# Altium footprint library UDEMY_Library.PcbLib: 35 footprints (part 1 of 3)
Each footprint in its own frame and in the unit in brackets; x right, y up, seen from the top. Pads: shape width x height; smd on the part's side, far side on the other; paste and mask are expansions set on the pad; w line width, h text height; cw(c..) or ccw(c..) is an arc to the next point about the centre after c.
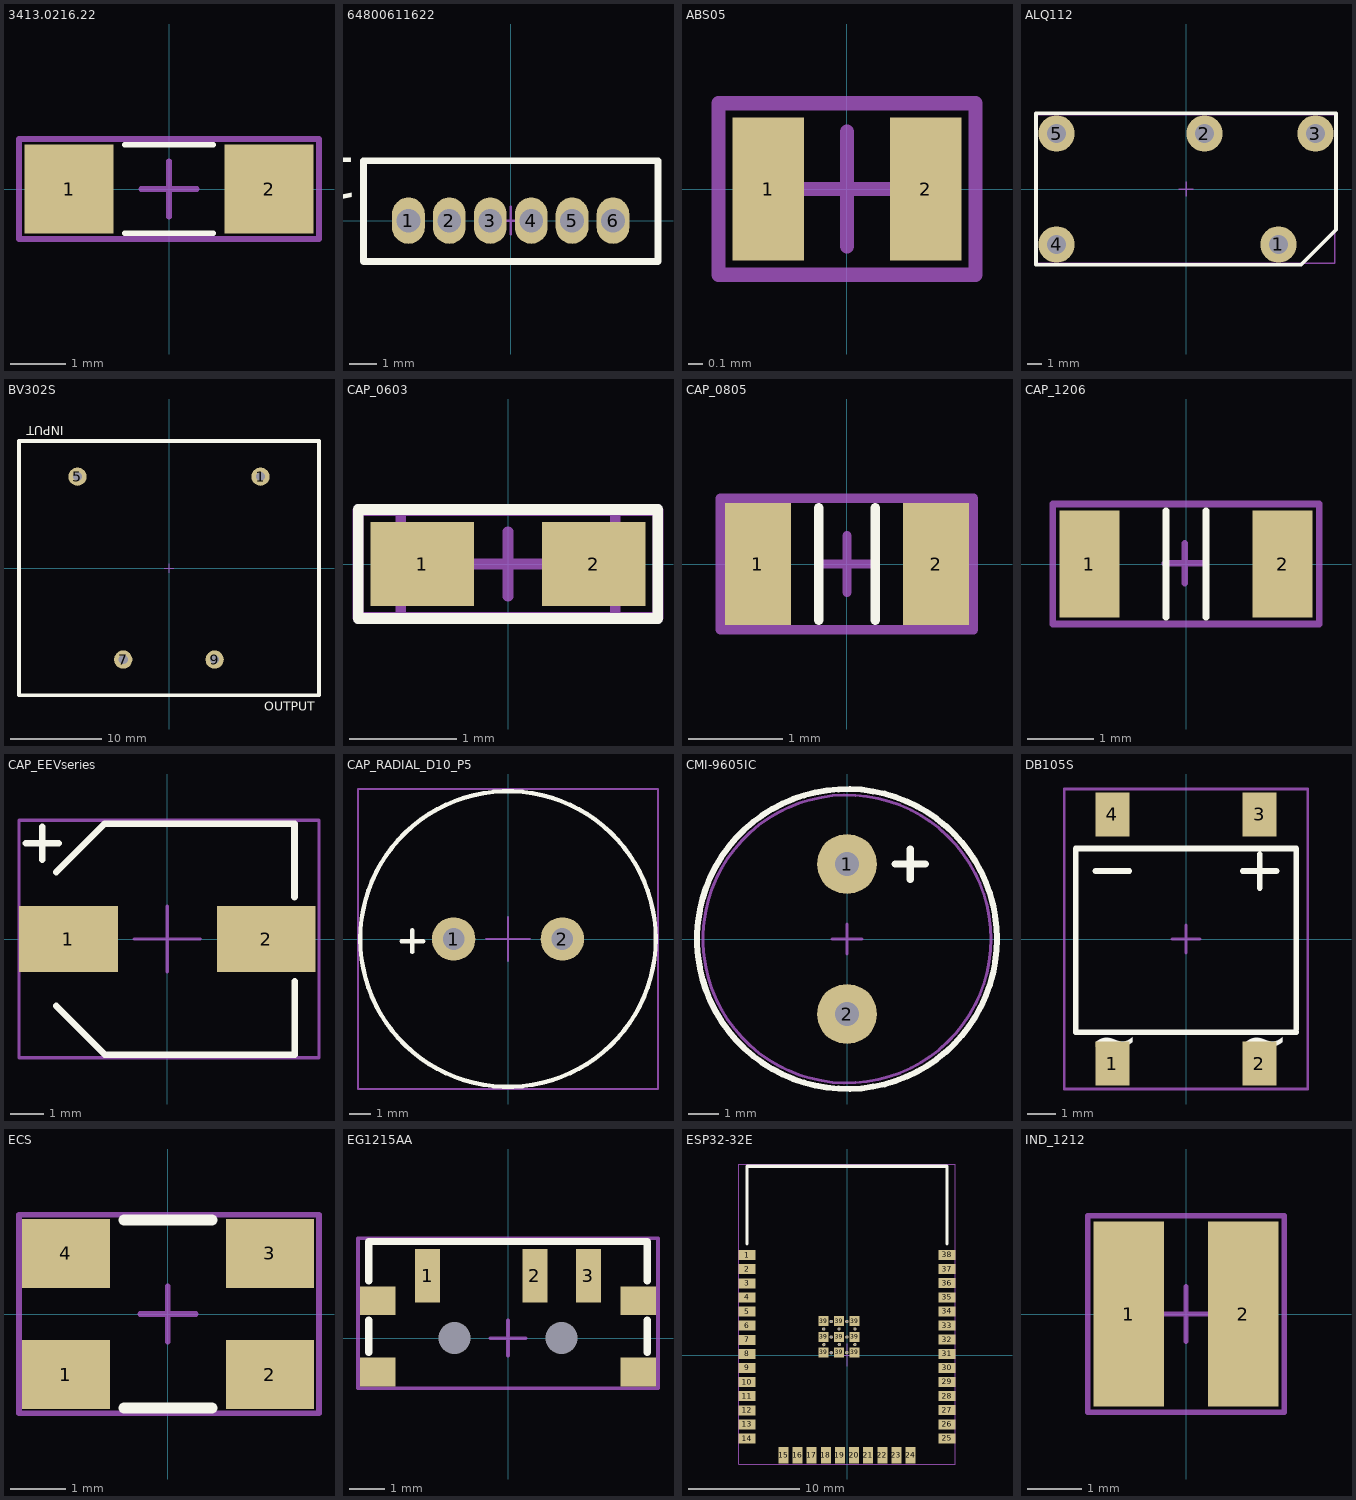
[diagram p0: the footprints below, top view; thin cyan lines are the x and y axes]

## 3413.0216.22 [mm]
pads (2):
  rect 1.6x1.6 smd mask+0.05: 1(-1.8,0) 2(1.8,0)
Top Overlay:
  lines w0.1: -0.8,-0.8 0.8,-0.8 ; -0.8,0.8 0.8,0.8
Top Component Center:
  lines w0.1: -0.5,0 0.5,0 ; 0,-0.5 0,0.5 ; -2.7,-0.9 -2.7,0.9 2.7,0.9 2.7,-0.9 -2.7,-0.9
Top Designator:
  lines w0.1: -2.7,-0.9 -2.7,0.9 2.7,0.9 2.7,-0.9 -2.7,-0.9
  text "'.Designator'" at -2.2,-0.8 h0.8
3D body "e_0100.3479_003.step": height 0.6, standoff -0.04, extent -1.612,-0.8 1.612,0.8

## 64800611622 [mm]
pads (6):
  oval 1.2x1.7 hole 0.87 mask+0.05: 1(-3.75,0) 2(-2.25,0) 3(-0.75,0) 4(0.75,0) 5(2.25,0) 6(3.75,0)
Top Overlay:
  lines w0.25: -5.4,-1.5 -5.4,2.2 5.4,2.2 5.4,-1.5 -5.4,-1.5
  text "1" at -5.6,2.3 h1.52
Top Component Center:
  lines w0.1: -0.5,0 0.5,0 ; 0,-0.5 0,0.5 ; -5.4,-1.5 -5.4,2.2 5.4,2.2 5.4,-1.5 -5.4,-1.5
Top Designator:
  lines w0.1: -5.4,-1.5 5.4,-1.5 5.4,2.2 -5.4,2.2 -5.4,-1.5
  text "'.Designator'" at -4.4,-1.1 h1.52
3D body "64800611622 (rev1).stp": height 4.51, standoff -2.69, extent -5.25,-1.4 5.25,2.1

## ABS05 [mm]
pads (2):
  rect 0.5x1 smd mask+0.05: 1(-0.55,0) 2(0.55,0)
Top Component Center:
  lines w0.1: -0.4,0 0.4,0 ; 0,-0.4 0,0.4 ; -0.9,-0.6 0.9,-0.6 0.9,0.6 -0.9,0.6 -0.9,-0.6
Top Designator:
  lines w0.1: -0.9,-0.6 0.9,-0.6 0.9,0.6 -0.9,0.6 -0.9,-0.6
  text "'.Designator'" at -1.1,-0.8 h0.7
3D body "ABS05-32.768KHZ-T--3DModel-STEP-400430.STEP": height 0.51, standoff 0.01, extent -0.8,-0.5 0.8,0.5

## ALQ112 [mm]
pads (5):
  round 2.5 hole 1.3 mask+0.05: 1(6.35,-3.81) 2(1.27,3.81) 3(8.89,3.81) 4(-8.89,-3.81) 5(-8.89,3.81)
Top Overlay:
  lines w0.25: -10.3,-5.2 -10.3,5.2 10.3,5.2 10.3,-2.8 7.9,-5.2 -10.3,-5.2
Top Component Center:
  lines w0.1: -0.5,0 0.5,0 ; 0,-0.5 0,0.5 ; -10.2,-5.1 10.2,-5.1 10.2,5.1 -10.2,5.1 -10.2,-5.1
Top Designator:
  lines w0.1: -10.2,-5.1 10.2,-5.1 10.2,5.1 -10.2,5.1 -10.2,-5.1
  text "'.Designator'" at -5.3,-1.2 h1.52
3D body: height 15.6, standoff 0.4, extent 7.997,-4.011 8.997,-3.011
3D body: height 15.6, standoff 0.4, extent -10,-5.01 10,4.99
3D body: height 0.4, standoff -4, extent 8.49,3.66 9.29,3.96
3D body: height 0.4, standoff -4, extent 5.95,-3.96 6.75,-3.66
3D body: height 0.4, standoff -4, extent 0.87,3.66 1.67,3.96
3D body: height 0.5, standoff -3.7, extent -9.288,3.411 -8.492,4.209
3D body: height 0.5, standoff -3.7, extent -9.287,-4.209 -8.49,-3.411

## BV302S [mm]
pads (4):
  round 2 hole 1 mask+0.05: 1(10.006,10.001) 5(-10.006,9.999) 7(-5.006,-10.001) 9(4.994,-10.001)
Top Overlay:
  lines w0.4: -16.4,-13.9 -16.4,13.9 16.4,13.9 16.4,-13.9 -16.4,-13.9
  text "INPUT" at -11.5,15.5 h1
  text "OUTPUT" at 10.4,-15.6 h1
Top Component Center:
  lines w0.1: -0.5,0 0.5,0 ; 0,-0.5 0,0.5 ; -16.4,-13.9 -16.4,13.9 16.4,13.9 16.4,-13.9 -16.4,-13.9
Top Designator:
  lines w0.1: -16.4,-13.9 16.4,-13.9 16.4,13.9 -16.4,13.9 -16.4,-13.9
  text "'.Designator'" at -7.6,-1.4 h1.52
3D body "Hahn BV EI 302 2902.step": height 20.81, standoff -5.49, extent -16.25,-13.75 16.25,13.75

## CAP_0603 [mil]
pads (2):
  rect 38x31 smd mask+1.97: 1(-31.5,0) 2(31.5,0)
Top Overlay:
  lines w3.94: -55,-20 -55,20 55,20 55,-20 -55,-20
Mechanical 1:
  lines w3.94: -39.37,-19.68 39.37,-19.68 39.37,19.68 -39.37,19.68 -39.37,-19.68
Top Component Center:
  lines w3.94: -11.81,0 11.81,0 ; 0,-11.81 0,11.81 ; -55,-20 -55,20 55,20 55,-20 -55,-20
Top Designator:
  lines w3.94: -55.12,-19.68 -55.12,19.68 55.12,19.68 55.12,-19.68 -55.12,-19.68
  text ".Designator" at -44.29,-20.67 h19.68
3D body "CAPC0603.STEP": height 32, standoff 0.5, extent -41.35,-20.13 41.35,20.37

## CAP_0805 [mm]
pads (2):
  rect 0.7x1.3 smd mask+0.05: 1(-0.95,0) 2(0.95,0)
Top Overlay:
  lines w0.1: -0.3,-0.6 -0.3,0.6 ; 0.3,-0.6 0.3,0.6
Top Component Center:
  lines w0.1: -0.3,0 0.3,0 ; 0,-0.3 0,0.3 ; -1.35,-0.7 -1.35,0.7 1.35,0.7 1.35,-0.7 -1.35,-0.7
Top Designator:
  lines w0.1: -1.35,-0.7 -1.35,0.7 1.35,0.7 1.35,-0.7 -1.35,-0.7
  text "'.Designator'" at -1.6,-0.7 h0.7
3D body "CAPC0805.STEP": height 0.91, standoff 0.01, extent -1.301,-0.678 1.301,0.678

## CAP_1206 [mm]
pads (2):
  rect 0.9x1.6 smd mask+0.05: 1(-1.45,0) 2(1.45,0)
Top Overlay:
  lines w0.1: -0.3,-0.8 -0.3,0.8 ; 0.3,-0.8 0.3,0.8
Top Component Center:
  lines w0.1: -0.318,0.009 0.282,0.009 ; -0.018,-0.291 -0.018,0.309 ; -2,-0.9 -2,0.9 2,0.9 2,-0.9 -2,-0.9
Top Designator:
  lines w0.1: -2,-0.9 -2,0.9 2,0.9 2,-0.9 -2,-0.9
  text "'.Designator'" at -1.4,-0.7 h0.7
3D body "CAPC1206.STEP": height 1.32, standoff 0.01, extent -1.975,-0.976 1.974,0.976

## CAP_EEVseries [mm]
pads (2):
  rect 3x2 smd mask+0.05: 1(-3,0) 2(3,0)
Top Overlay:
  lines w0.2: -4.3,2.9 -3.3,2.9 ; -3.8,2.4 -3.8,3.4 ; -3.376,-2.026 -1.896,-3.506 3.861,-3.506 3.861,-1.281 ; -3.375,2.025 -1.9,3.5 3.857,3.5 3.857,1.275
Top Component Center:
  lines w0.1: -1,0 1,0 ; 0,-1 0,1 ; -4.5,-3.6 4.6,-3.6 4.6,3.6 -4.5,3.6 -4.5,-3.6
Top Designator:
  lines w0.1: -4.5,-3.6 4.6,-3.6 4.6,3.6 -4.5,3.6 -4.5,-3.6
  text "'.Designator'" at -3.1,-1.4 h1.52
3D body "EEV686M035A9HAA.step": height 8.02, standoff 0.01, extent -3.8,-3.4 3.8,3.4

## CAP_RADIAL_D10_P5 [mm]
pads (2):
  round 2 hole 1 mask+0.05: 1(-2.5,0) 2(2.5,0)
Top Overlay:
  circle w0.2: c0,0 r6.8
  lines w0.2: -4.9,-0.1 -3.9,-0.1 ; -4.4,-0.6 -4.4,0.4
Top Component Center:
  lines w0.1: -1,0 1,0 ; 0,-1 0,1 ; -6.9,-6.9 6.9,-6.9 6.9,6.9 -6.9,6.9 -6.9,-6.9
Top Designator:
  lines w0.1: -6.9,-6.9 -6.9,6.9 6.9,6.9 6.9,-6.9 -6.9,-6.9
  text "'.Designator'" at -3.7,-1.7 h1.52
3D body "ESH477M050AL3AA.step": height 22.02, standoff -19.99, extent -6.75,-6.75 6.75,6.771

## CMI-9605IC [mm]
pads (2):
  round 2 hole 0.8 mask+0.05: 1(0,2.5) 2(0,-2.5)
Top Overlay:
  circle w0.2: c0,0 r5
  lines w0.25: 1.6,2.5 2.6,2.5 ; 2.1,2 2.1,3
Top Component Center:
  circle w0.1: c0,0 r4.8
  lines w0.1: -0.5,0 0.5,0 ; 0,-0.5 0,0.5
Top Designator:
  circle w0.1: c0,0 r4.8
  text ".Designator" at -2.6,-1.3 h1.52
3D body: height 5.2, standoff 5.15, extent -2,1.8 2,5.8
3D body: height 5.2, standoff 5.15, extent -4.3,-4.297 4.3,4.297
3D body: height 0.15, standoff -3.85, extent -0.299,-2.799 0.299,-2.201
3D body: height 0.15, standoff -5.35, extent -0.299,2.201 0.299,2.799
3D body: height 5.1, standoff 0.1, extent -4.8,-4.797 4.8,4.797

## DB105S [mm]
pads (4):
  rect 1.2x1.55 smd mask+0.05: 1(-2.605,-4.4) 2(2.595,-4.4) 3(2.605,4.4) 4(-2.605,4.4)
Top Overlay:
  lines w0.2: -3.2,2.4 -2,2.4 ; 2,2.4 3.2,2.4 ; 2.6,1.8 2.6,3 ; 3.9,-3.3 -3.9,-3.3 -3.9,3.2 3.9,3.2 3.9,-3.2
  text "~" at -3.4,-4.3 h1.52
  text "~" at 1.9,-4.3 h1.52
Top Component Center:
  lines w0.1: -0.5,0 0.5,0 ; 0,-0.5 0,0.5 ; -4.3,-5.3 -4.3,5.3 4.3,5.3 4.3,-5.3 -4.3,-5.3
Top Designator:
  lines w0.1: -4.3,-5.3 -4.3,5.3 4.3,5.3 4.3,-5.3 -4.3,-5.3
  text "'.Designator'" at -3.3,-1.2 h1
3D body "DB107S  DB-S.step": height 2.67, standoff 0.01, extent -4.16,-5.17 4.16,5.23

## ECS [mm]
pads (4):
  rect 1.6x1.25 smd mask+0.05: 1(-1.85,-1.1) 2(1.85,-1.1) 3(1.85,1.1) 4(-1.85,1.1)
Top Overlay:
  lines w0.2: -0.8,-1.7 0.8,-1.7 ; -0.8,1.7 0.8,1.7
Top Component Center:
  lines w0.1: -0.5,0 0.5,0 ; 0,-0.5 0,0.5 ; -2.7,-1.8 -2.7,1.8 2.739,1.8 2.739,-1.8 -2.7,-1.8
Top Designator:
  lines w0.1: -2.7,-1.8 -2.7,1.8 2.739,1.8 2.739,-1.8 -2.7,-1.8
  text "'.Designator'" at -2.5,-1.4 h1.52
3D body "ECS-160-20-30B-TR.STEP": height 0.86, standoff 0.01, extent -2.5,-1.6 2.5,1.6

## EG1215AA [mm]
pads (9):
  rect 0.7x1.5 smd mask+0.05: 1(-2.25,1.75) 2(0.75,1.75) 3(2.25,1.75)
  rect 1x0.8 smd mask+0.05: ""(-3.65,-0.95) ""(-3.65,1.05) ""(3.65,-0.95) ""(3.65,1.05)
  round 0 hole 0.9 mask+0.05: ""(-1.5,0) ""(1.5,0)
Top Overlay:
  lines w0.2: -3.9,-0.4 -3.9,0.5 ; -3.9,1.6 -3.9,2.7 3.9,2.7 3.9,1.6 ; 3.9,-0.4 3.9,0.5
Top Component Center:
  lines w0.1: -0.5,0 0.5,0 ; 0,-0.5 0,0.5 ; -4.2,-1.4 4.2,-1.4 4.2,2.8 -4.2,2.8 -4.2,-1.4
Top Designator:
  lines w0.1: -4.2,-1.4 4.2,-1.4 4.2,2.8 -4.2,2.8 -4.2,-1.4
  text "'.Designator'" at -4,-0.8 h1.52
3D body "EG1215AA--3DModel-STEP-1.STEP": height 1.26, standoff -0.44, extent -3.85,-2.7 3.85,2.2

## ESP32-32E [mm]
pads (59):
  rect 1.5x0.9 smd mask+0.05: 1(-9,9) 2(-9,7.73) 3(-9,6.46) 4(-9,5.19) 5(-9,3.92) 6(-9,2.65) 7(-9,1.38) 8(-9,0.11) 9(-9,-1.16) 10(-9,-2.43) 11(-9,-3.7) 12(-9,-4.97) 13(-9,-6.24) 14(-9,-7.51) 25(9,-7.5) 26(9,-6.23) 27(9,-4.96) 28(9,-3.69) 29(9,-2.42) 30(9,-1.15) 31(9,0.12) 32(9,1.39) 33(9,2.66) 34(9,3.93) 35(9,5.2) 36(9,6.47) 37(9,7.74) 38(9,9.01)
  rect 0.9x1.5 smd mask+0.05: 15(-5.715,-9.01) 16(-4.445,-9.01) 17(-3.175,-9.01) 18(-1.905,-9.01) 19(-0.635,-9.01) 20(0.635,-9.01) 21(1.905,-9.01) 22(3.175,-9.01) 23(4.445,-9.01) 24(5.715,-9.01)
  rect 0.9x0.9 smd mask+0.05: 39(-2.115,0.25) 39(-2.115,1.65) 39(-2.115,3.05) 39(-0.715,0.25) 39(-0.715,1.65) 39(-0.715,3.05) 39(0.685,0.25) 39(0.685,1.65) 39(0.685,3.05)
  round 0.3 hole 0.2 mask+0.05: 39(-2.1,2.35) 39(-2.081,0.946) 39(-1.423,1.62) 39(-1.415,3.022) 39(-1.413,0.215) 39(-0.715,2.35) 39(-0.689,0.948) 39(-0.02,0.224) 39(-0.013,3.026) 39(-0.009,1.623) 39(0.71,0.954) 39(0.717,2.35)
Top Overlay:
  lines w0.3: -9,10 -9,17 9,17 9,10
Top Component Center:
  lines w0.1: -1,0 1,0 ; 0,-1 0,1 ; -9.75,-9.801 9.75,-9.801 9.75,17.199 -9.75,17.199 -9.75,-9.801
Top Designator:
  lines w0.1: -9.75,-9.801 -9.75,17.199 9.75,17.199 9.75,-9.801 -9.75,-9.801
  text ".Designator" at -3.5,1.375 h1.52
3D body "esp-wroom-32.step": height 3.05, standoff 0.01, extent -9.05,-9.04 9.02,16.5

## IND_1212 [mm]
pads (2):
  rect 1.3x3.4 smd mask+0.05: 1(-1.05,0) 2(1.05,0)
Top Component Center:
  lines w0.1: -0.5,0 0.5,0 ; 0,-0.5 0,0.5 ; -1.8,-1.8 -1.8,1.8 1.8,1.8 1.8,-1.8 -1.8,-1.8
Top Designator:
  lines w0.1: -1.8,-1.8 -1.8,1.8 1.8,1.8 1.8,-1.8 -1.8,-1.8
  text "'.Designator'" at -1.6,-1.2 h1
3D body "78438335010_Download_STP_WE-MAIA-3015_rev1.stp": height 1.21, standoff 0.01, extent -1.5,-1.5 1.5,1.5